# Altium schematic symbol library WATSH.SCHLIB: 16 symbols
Pins are listed as number, name and electrical type; pins without a type are passive.

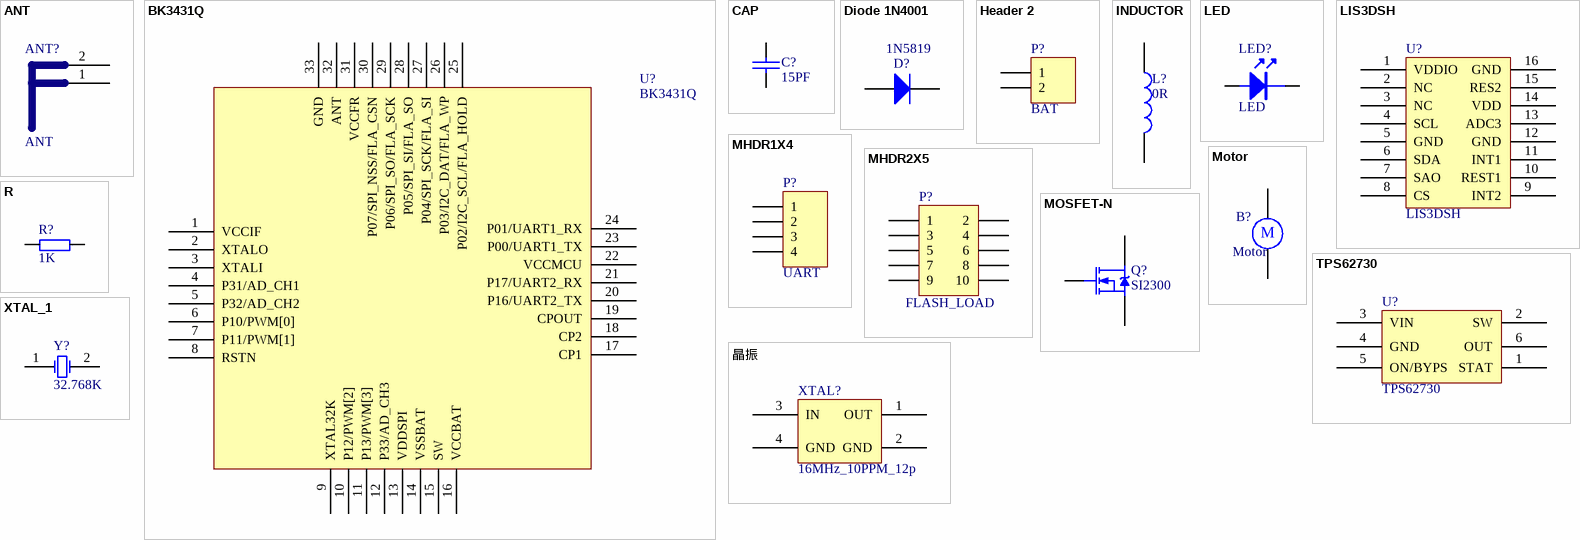
[diagram p0: symbols ANT to 晶振]

## ANT
designator ANT?
pins: 1 ANT, 2 GND

## BK3431Q
designator U?
footprint QFN32
pins: 1 VCCIF, 2 XTALO, 3 XTALI, 4 P31/AD_CH1, 5 P32/AD_CH2, 6 P10/PWM[0], 7 P11/PWM[1], 8 RSTN, 9 XTAL32K, 10 P12/PWM[2], 11 P13/PWM[3], 12 P33/AD_CH3, 13 VDDSPI, 14 VSSBAT, 15 SW, 16 VCCBAT, 17 CP1, 18 CP2, 19 CPOUT, 20 P16/UART2_TX, 21 P17/UART2_RX, 22 VCCMCU, 23 P00/UART1_TX, 24 P01/UART1_RX, 25 P02/I2C_SCL/FLA_HOLD, 26 P03/I2C_DAT/FLA_WP, 27 P04/SPI_SCK/FLA_SI, 28 P05/SPI_SI/FLA_SO, 29 P06/SPI_SO/FLA_SCK, 30 P07/SPI_NSS/FLA_CSN, 31 VCCFR, 32 ANT, 33 GND

## CAP
designator C?, comment 15PF
Capacitor
footprint 0402_C
pins: 1, 2

## Diode 1N4001
designator D?, comment 1N5819
1 Amp General Purpose Rectifier; Published: 8-Jun-2000; LatestRevisionDate: 17-Jul-2002; LatestRevisionNote: Re-released for DXP Platform.; DatasheetVersion: 1998; PackageVersion: Aug-1999; PackageReference: DO-41; Publisher: Altium Limited; PackageDescription: Diode, Axial; Body 5.2 x 2.7 mm (LxDia. max), Lead Dia. 0.86 mm (max); Code_JEDEC: DO-204-AL; ComponentLink1Description: Manufacturer Link; ComponentLink1URL: http://www.fairchildsemi.com/; ComponentLink2Description: Datasheet; ComponentLink2URL: http://www.fairchildsemi.com/ds/1N%2F1N4001.pdf
footprint SOD-323
simulation model 1N4001 (DIODE)
signal-integrity model 1N4001
pins: 1 A, 2 K

## Header 2
designator P?, comment BAT
Header, 2-Pin; LatestRevisionDate: 17-Jul-2002; LatestRevisionNote: Re-released for DXP Platform.; Publisher: Altium Limited
footprint HDR1X2 (Connector; Header; 2 Position)
signal-integrity model Connector
pins: 1, 2

## INDUCTOR
designator L?, comment 0R
footprint 0603S
footprint 0603p
pins: 1, 2

## LED
designator LED?
footprint SIP2
footprint SIP2A
footprint LED3
footprint LED5
footprint 0402_LED
pins: 1 A, 2 K

## LIS3DSH
designator U?
footprint LGA-16
pins: 1 VDDIO, 2 NC, 3 NC, 4 SCL, 5 GND, 6 SDA, 7 SAO, 8 CS, 9 INT2, 10 REST1, 11 INT1, 12 GND, 13 ADC3, 14 VDD, 15 RES2, 16 GND

## MHDR1X4
designator P?, comment UART
Header, 4-Pin; LatestRevisionDate: 17-Jul-2002; LatestRevisionNote: Re-released for DXP Platform.; Publisher: Altium Limited
footprint MHDR1X4 (Connector; Header; 4 Position)
signal-integrity model Connector
pins: 1, 2, 3, 4

## MHDR2X5
designator P?, comment FLASH_LOAD
Header, 5-Pin, Dual row; LatestRevisionDate: 17-Jul-2002; LatestRevisionNote: Re-released for DXP Platform.; Publisher: Altium Limited
footprint MHDR2X5 (Connector; Header; 5x2 Position)
signal-integrity model Connector
pins: 1, 2, 3, 4, 5, 6, 7, 8, 9, 10

## MOSFET-N
designator Q?, comment SI2300
N-Channel MOSFET; PackageDocument: 1995/1996; Published: 8-Jun-2000; LatestRevisionDate: 17-Jul-2002; LatestRevisionNote: Re-released for DXP Platform.; PackageReference: E3; Publisher: Altium Limited
footprint SOT-23; pin to pad D>3 G>1 S>2
pins: D, G, S

## Motor
designator B?
Motor, General Kind; Published: 24-Mar-1999; LatestRevisionDate: 17-Jul-2002; LatestRevisionNote: Re-released for DXP Platform.; PackageReference: RB5-10.5; Publisher: Altium Limited; PackageDescription: Capacitor (Radial); 2 Leads
footprint HDR1X2 (Connector; Header; 2 Position)
pins: 1, 2
text: M

## R
designator R?, comment 1K
footprint 0805
footprint 0603P
footprint RL (10o/0.7uH)
footprint R16.0 (RX/1W)
footprint 1206
footprint 1210
footprint R20.0 (RX/2W)
footprint R10.16 (STD)
footprint RLN9 (13.5mm*5.1mm)
footprint 0402_R
pins: 1, 2

## TPS62730
designator U?
footprint R-PUSON-N6
pins: 1 STAT, 2 SW, 3 VIN, 4 GND, 5 ON/BYPS, 6 OUT

## XTAL_1
designator Y?, comment 32.768K
Crystal Oscillator; Published: 8-Jun-2000; LatestRevisionDate: 17-Jul-2002; LatestRevisionNote: Re-released for DXP Platform.; Publisher: Altium Limited
footprint 晶振3.2*1.5
simulation model XTAL (Spice Subcircuit)
pins: 1 OSC1, 2 OSC2

## 晶振
designator XTAL?, comment 16MHz_10PPM_12p
footprint 晶振3.2*2.5
pins: 1 OUT, 2 GND, 3 IN, 4 GND